# EAGLE library part IF_VIDEO_BRIDGE_MS1861 (library !GPLIB_ACTIVE)
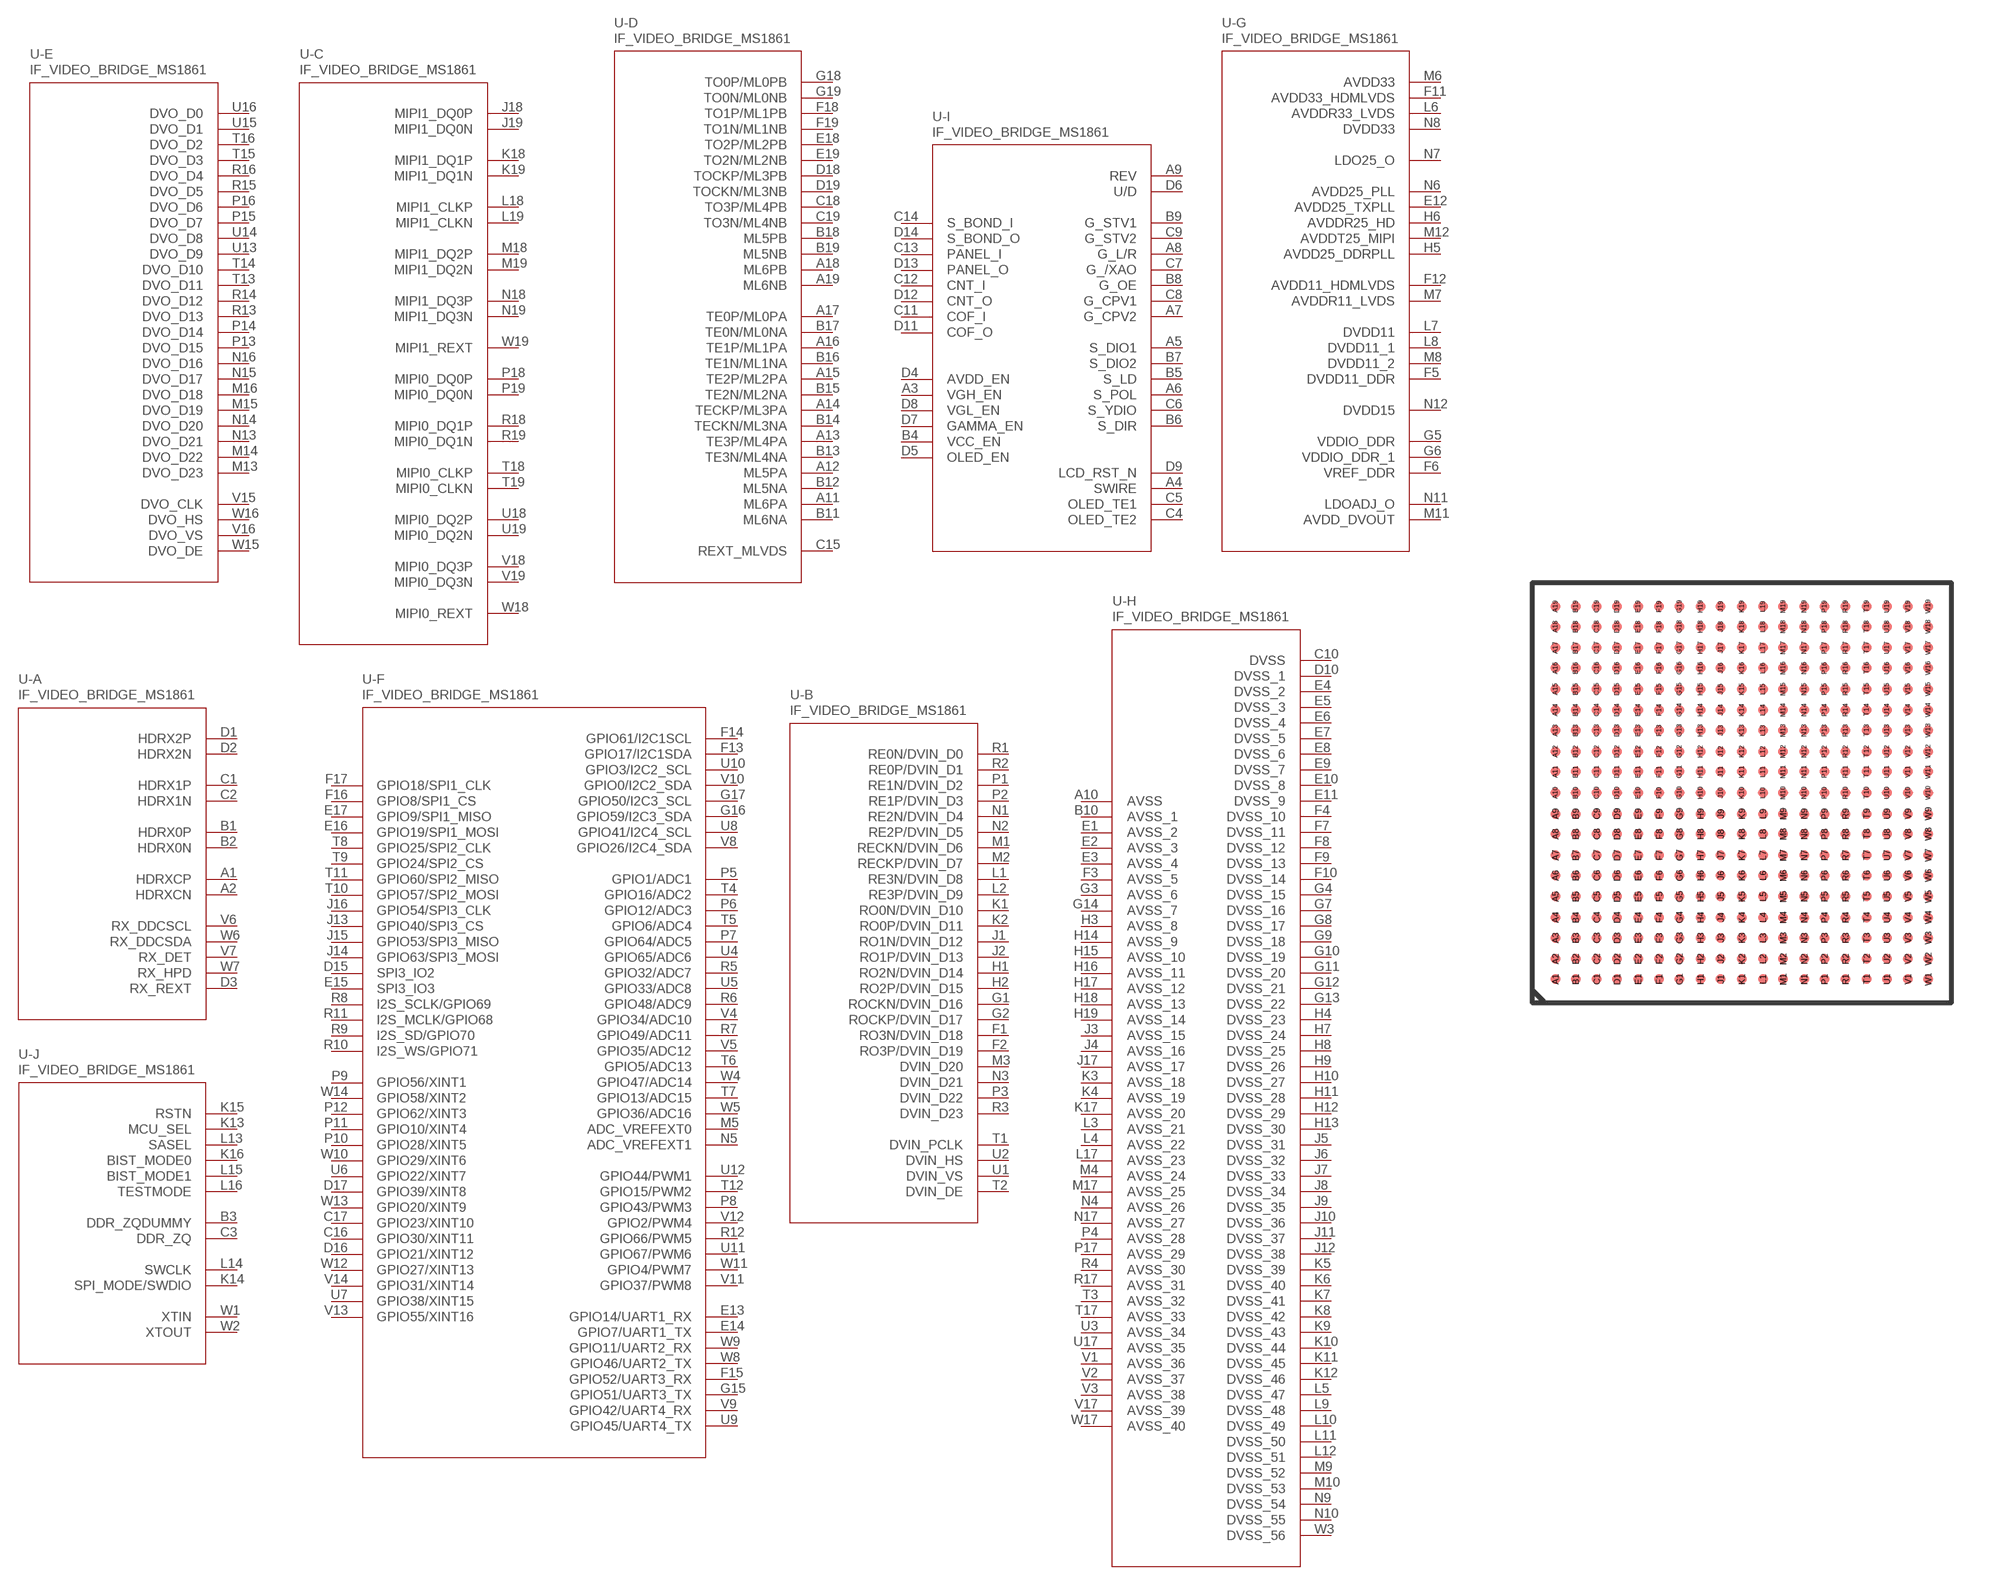
[diagram p129: symbol with the pads of BGA361C65P19X19_1300X1300X130; footprint BGA361C65P19X19_1300X1300X130]

Designator prefix U; gates -J=MS1861_SYS -F=MS1861_GPIO -H=MS1861_VSS -C=MS1861_MIPI -G=MS1861_POWER -I=MS1861_TCON -D=MS1861_MLVDS -E=MS1861_DVOUT -B=MS1861_DVIN -A=MS1861_HDMI_RX

## IF_VIDEO_BRIDGE_MS1861_MS1861  [BGA361C65P19X19_1300X1300X130]
A1  -A:HDRXCP
A2  -A:HDRXCN
A3  -I:VGH_EN
A4  -I:SWIRE
A5  -I:S_DIO1
A6  -I:S_POL
A7  -I:G_CPV2
A8  -I:G_L/R
A9  -I:REV
A10  -H:AVSS  pwr
A11  -D:ML6PA
A12  -D:ML5PA
A13  -D:TE3P/ML4PA
A14  -D:TECKP/ML3PA
A15  -D:TE2P/ML2PA
A16  -D:TE1P/ML1PA
A17  -D:TE0P/ML0PA
A18  -D:ML6PB
A19  -D:ML6NB
B1  -A:HDRX0P
B2  -A:HDRX0N
B3  -J:DDR_ZQDUMMY
B4  -I:VCC_EN
B5  -I:S_LD
B6  -I:S_DIR
B7  -I:S_DIO2
B8  -I:G_OE
B9  -I:G_STV1
B10  -H:AVSS_1  pwr
B11  -D:ML6NA
B12  -D:ML5NA
B13  -D:TE3N/ML4NA
B14  -D:TECKN/ML3NA
B15  -D:TE2N/ML2NA
B16  -D:TE1N/ML1NA
B17  -D:TE0N/ML0NA
B18  -D:ML5PB
B19  -D:ML5NB
C1  -A:HDRX1P
C2  -A:HDRX1N
C3  -J:DDR_ZQ
C4  -I:OLED_TE2
C5  -I:OLED_TE1
C6  -I:S_YDIO
C7  -I:G_/XAO
C8  -I:G_CPV1
C9  -I:G_STV2
C10  -H:DVSS  pwr
C11  -I:COF_I
C12  -I:CNT_I
C13  -I:PANEL_I
C14  -I:S_BOND_I
C15  -D:REXT_MLVDS
C16  -F:GPIO30/XINT11
C17  -F:GPIO23/XINT10
C18  -D:TO3P/ML4PB
C19  -D:TO3N/ML4NB
D1  -A:HDRX2P
D2  -A:HDRX2N
D3  -A:RX_REXT
D4  -I:AVDD_EN
D5  -I:OLED_EN
D6  -I:U/D
D7  -I:GAMMA_EN
D8  -I:VGL_EN
D9  -I:LCD_RST_N
D10  -H:DVSS_1  pwr
D11  -I:COF_O
D12  -I:CNT_O
D13  -I:PANEL_O
D14  -I:S_BOND_O
D15  -F:SPI3_IO2
D16  -F:GPIO21/XINT12
D17  -F:GPIO39/XINT8
D18  -D:TOCKP/ML3PB
D19  -D:TOCKN/ML3NB
E1  -H:AVSS_2  pwr
E2  -H:AVSS_3  pwr
E3  -H:AVSS_4  pwr
E4  -H:DVSS_2  pwr
E5  -H:DVSS_3  pwr
E6  -H:DVSS_4  pwr
E7  -H:DVSS_5  pwr
E8  -H:DVSS_6  pwr
E9  -H:DVSS_7  pwr
E10  -H:DVSS_8  pwr
E11  -H:DVSS_9  pwr
E12  -G:AVDD25_TXPLL  pwr
E13  -F:GPIO14/UART1_RX
E14  -F:GPIO7/UART1_TX
E15  -F:SPI3_IO3
E16  -F:GPIO19/SPI1_MOSI
E17  -F:GPIO9/SPI1_MISO
E18  -D:TO2P/ML2PB
E19  -D:TO2N/ML2NB
F1  -B:RO3N/DVIN_D18
F2  -B:RO3P/DVIN_D19
F3  -H:AVSS_5  pwr
F4  -H:DVSS_10  pwr
F5  -G:DVDD11_DDR  pwr
F6  -G:VREF_DDR  pwr
F7  -H:DVSS_11  pwr
F8  -H:DVSS_12  pwr
F9  -H:DVSS_13  pwr
F10  -H:DVSS_14  pwr
F11  -G:AVDD33_HDMLVDS  pwr
F12  -G:AVDD11_HDMLVDS  pwr
F13  -F:GPIO17/I2C1SDA
F14  -F:GPIO61/I2C1SCL
F15  -F:GPIO52/UART3_RX
F16  -F:GPIO8/SPI1_CS
F17  -F:GPIO18/SPI1_CLK
F18  -D:TO1P/ML1PB
F19  -D:TO1N/ML1NB
G1  -B:ROCKN/DVIN_D16
G2  -B:ROCKP/DVIN_D17
G3  -H:AVSS_6  pwr
G4  -H:DVSS_15  pwr
G5  -G:VDDIO_DDR  pwr
G6  -G:VDDIO_DDR_1  pwr
G7  -H:DVSS_16  pwr
G8  -H:DVSS_17  pwr
G9  -H:DVSS_18  pwr
G10  -H:DVSS_19  pwr
G11  -H:DVSS_20  pwr
G12  -H:DVSS_21  pwr
G13  -H:DVSS_22  pwr
G14  -H:AVSS_7  pwr
G15  -F:GPIO51/UART3_TX
G16  -F:GPIO59/I2C3_SDA
G17  -F:GPIO50/I2C3_SCL
G18  -D:TO0P/ML0PB
G19  -D:TO0N/ML0NB
H1  -B:RO2N/DVIN_D14
H2  -B:RO2P/DVIN_D15
H3  -H:AVSS_8  pwr
H4  -H:DVSS_23  pwr
H5  -G:AVDD25_DDRPLL  pwr
H6  -G:AVDDR25_HD  pwr
H7  -H:DVSS_24  pwr
H8  -H:DVSS_25  pwr
H9  -H:DVSS_26  pwr
H10  -H:DVSS_27  pwr
H11  -H:DVSS_28  pwr
H12  -H:DVSS_29  pwr
H13  -H:DVSS_30  pwr
H14  -H:AVSS_9  pwr
H15  -H:AVSS_10  pwr
H16  -H:AVSS_11  pwr
H17  -H:AVSS_12  pwr
H18  -H:AVSS_13  pwr
H19  -H:AVSS_14  pwr
J1  -B:RO1N/DVIN_D12
J2  -B:RO1P/DVIN_D13
J3  -H:AVSS_15  pwr
J4  -H:AVSS_16  pwr
J5  -H:DVSS_31  pwr
J6  -H:DVSS_32  pwr
J7  -H:DVSS_33  pwr
J8  -H:DVSS_34  pwr
J9  -H:DVSS_35  pwr
J10  -H:DVSS_36  pwr
J11  -H:DVSS_37  pwr
J12  -H:DVSS_38  pwr
J13  -F:GPIO40/SPI3_CS
J14  -F:GPIO63/SPI3_MOSI
J15  -F:GPIO53/SPI3_MISO
J16  -F:GPIO54/SPI3_CLK
J17  -H:AVSS_17  pwr
J18  -C:MIPI1_DQ0P
J19  -C:MIPI1_DQ0N
K1  -B:RO0N/DVIN_D10
K2  -B:RO0P/DVIN_D11
K3  -H:AVSS_18  pwr
K4  -H:AVSS_19  pwr
K5  -H:DVSS_39  pwr
K6  -H:DVSS_40  pwr
K7  -H:DVSS_41  pwr
K8  -H:DVSS_42  pwr
K9  -H:DVSS_43  pwr
K10  -H:DVSS_44  pwr
K11  -H:DVSS_45  pwr
K12  -H:DVSS_46  pwr
K13  -J:MCU_SEL
K14  -J:SPI_MODE/SWDIO
K15  -J:RSTN
K16  -J:BIST_MODE0
K17  -H:AVSS_20  pwr
K18  -C:MIPI1_DQ1P
K19  -C:MIPI1_DQ1N
L1  -B:RE3N/DVIN_D8
L2  -B:RE3P/DVIN_D9
L3  -H:AVSS_21  pwr
L4  -H:AVSS_22  pwr
L5  -H:DVSS_47  pwr
L6  -G:AVDDR33_LVDS  pwr
L7  -G:DVDD11  pwr
L8  -G:DVDD11_1  pwr
L9  -H:DVSS_48  pwr
L10  -H:DVSS_49  pwr
L11  -H:DVSS_50  pwr
L12  -H:DVSS_51  pwr
L13  -J:SASEL
L14  -J:SWCLK
L15  -J:BIST_MODE1
L16  -J:TESTMODE
L17  -H:AVSS_23  pwr
L18  -C:MIPI1_CLKP
L19  -C:MIPI1_CLKN
M1  -B:RECKN/DVIN_D6
M2  -B:RECKP/DVIN_D7
M3  -B:DVIN_D20
M4  -H:AVSS_24  pwr
M5  -F:ADC_VREFEXT0
M6  -G:AVDD33  pwr
M7  -G:AVDDR11_LVDS  pwr
M8  -G:DVDD11_2  pwr
M9  -H:DVSS_52  pwr
M10  -H:DVSS_53  pwr
M11  -G:AVDD_DVOUT  pwr
M12  -G:AVDDT25_MIPI  pwr
M13  -E:DVO_D23
M14  -E:DVO_D22
M15  -E:DVO_D19
M16  -E:DVO_D18
M17  -H:AVSS_25  pwr
M18  -C:MIPI1_DQ2P
M19  -C:MIPI1_DQ2N
N1  -B:RE2N/DVIN_D4
N2  -B:RE2P/DVIN_D5
N3  -B:DVIN_D21
N4  -H:AVSS_26  pwr
N5  -F:ADC_VREFEXT1
N6  -G:AVDD25_PLL  pwr
N7  -G:LDO25_O  pwr
N8  -G:DVDD33  pwr
N9  -H:DVSS_54  pwr
N10  -H:DVSS_55  pwr
N11  -G:LDOADJ_O  pwr
N12  -G:DVDD15  pwr
N13  -E:DVO_D21
N14  -E:DVO_D20
N15  -E:DVO_D17
N16  -E:DVO_D16
N17  -H:AVSS_27  pwr
N18  -C:MIPI1_DQ3P
N19  -C:MIPI1_DQ3N
P1  -B:RE1N/DVIN_D2
P2  -B:RE1P/DVIN_D3
P3  -B:DVIN_D22
P4  -H:AVSS_28  pwr
P5  -F:GPIO1/ADC1
P6  -F:GPIO12/ADC3
P7  -F:GPIO64/ADC5
P8  -F:GPIO43/PWM3
P9  -F:GPIO56/XINT1
P10  -F:GPIO28/XINT5
P11  -F:GPIO10/XINT4
P12  -F:GPIO62/XINT3
P13  -E:DVO_D15
P14  -E:DVO_D14
P15  -E:DVO_D7
P16  -E:DVO_D6
P17  -H:AVSS_29  pwr
P18  -C:MIPI0_DQ0P
P19  -C:MIPI0_DQ0N
R1  -B:RE0N/DVIN_D0
R2  -B:RE0P/DVIN_D1
R3  -B:DVIN_D23
R4  -H:AVSS_30  pwr
R5  -F:GPIO32/ADC7
R6  -F:GPIO48/ADC9
R7  -F:GPIO49/ADC11
R8  -F:I2S_SCLK/GPIO69
R9  -F:I2S_SD/GPIO70
R10  -F:I2S_WS/GPIO71
R11  -F:I2S_MCLK/GPIO68
R12  -F:GPIO66/PWM5
R13  -E:DVO_D13
R14  -E:DVO_D12
R15  -E:DVO_D5
R16  -E:DVO_D4
R17  -H:AVSS_31  pwr
R18  -C:MIPI0_DQ1P
R19  -C:MIPI0_DQ1N
T1  -B:DVIN_PCLK
T2  -B:DVIN_DE
T3  -H:AVSS_32  pwr
T4  -F:GPIO16/ADC2
T5  -F:GPIO6/ADC4
T6  -F:GPIO5/ADC13
T7  -F:GPIO13/ADC15
T8  -F:GPIO25/SPI2_CLK
T9  -F:GPIO24/SPI2_CS
T10  -F:GPIO57/SPI2_MOSI
T11  -F:GPIO60/SPI2_MISO
T12  -F:GPIO15/PWM2
T13  -E:DVO_D11
T14  -E:DVO_D10
T15  -E:DVO_D3
T16  -E:DVO_D2
T17  -H:AVSS_33  pwr
T18  -C:MIPI0_CLKP
T19  -C:MIPI0_CLKN
U1  -B:DVIN_VS
U2  -B:DVIN_HS
U3  -H:AVSS_34  pwr
U4  -F:GPIO65/ADC6
U5  -F:GPIO33/ADC8
U6  -F:GPIO22/XINT7
U7  -F:GPIO38/XINT15
U8  -F:GPIO41/I2C4_SCL
U9  -F:GPIO45/UART4_TX
U10  -F:GPIO3/I2C2_SCL
U11  -F:GPIO67/PWM6
U12  -F:GPIO44/PWM1
U13  -E:DVO_D9
U14  -E:DVO_D8
U15  -E:DVO_D1
U16  -E:DVO_D0
U17  -H:AVSS_35  pwr
U18  -C:MIPI0_DQ2P
U19  -C:MIPI0_DQ2N
V1  -H:AVSS_36  pwr
V2  -H:AVSS_37  pwr
V3  -H:AVSS_38  pwr
V4  -F:GPIO34/ADC10
V5  -F:GPIO35/ADC12
V6  -A:RX_DDCSCL
V7  -A:RX_DET
V8  -F:GPIO26/I2C4_SDA
V9  -F:GPIO42/UART4_RX
V10  -F:GPIO0/I2C2_SDA
V11  -F:GPIO37/PWM8
V12  -F:GPIO2/PWM4
V13  -F:GPIO55/XINT16
V14  -F:GPIO31/XINT14
V15  -E:DVO_CLK
V16  -E:DVO_VS
V17  -H:AVSS_39  pwr
V18  -C:MIPI0_DQ3P
V19  -C:MIPI0_DQ3N
W1  -J:XTIN
W2  -J:XTOUT
W3  -H:DVSS_56  pwr
W4  -F:GPIO47/ADC14
W5  -F:GPIO36/ADC16
W6  -A:RX_DDCSDA
W7  -A:RX_HPD
W8  -F:GPIO46/UART2_TX
W9  -F:GPIO11/UART2_RX
W10  -F:GPIO29/XINT6
W11  -F:GPIO4/PWM7
W12  -F:GPIO27/XINT13
W13  -F:GPIO20/XINT9
W14  -F:GPIO58/XINT2
W15  -E:DVO_DE
W16  -E:DVO_HS
W17  -H:AVSS_40  pwr
W18  -C:MIPI0_REXT
W19  -C:MIPI1_REXT

## Footprint BGA361C65P19X19_1300X1300X130 (pad centres in mm)
smd 0.305 x 0.305: A1 -5.842,-5.842; A2 -5.842,-5.207; A3 -5.842,-4.547; A4 -5.842,-3.912; A5 -5.842,-3.251; A6 -5.842,-2.591; A7 -5.842,-1.956; A8 -5.842,-1.295; A9 -5.842,-0.66; A10 -5.842,0; A11 -5.842,0.66; A12 -5.842,1.295; A13 -5.842,1.956; A14 -5.842,2.591; A15 -5.842,3.251; A16 -5.842,3.912; A17 -5.842,4.547; A18 -5.842,5.207; A19 -5.842,5.842; B1 -5.207,-5.842; B2 -5.207,-5.207; B3 -5.207,-4.547; B4 -5.207,-3.912; B5 -5.207,-3.251; B6 -5.207,-2.591; B7 -5.207,-1.956; B8 -5.207,-1.295; B9 -5.207,-0.66; B10 -5.207,0; B11 -5.207,0.66; B12 -5.207,1.295; B13 -5.207,1.956; B14 -5.207,2.591; B15 -5.207,3.251; B16 -5.207,3.912; B17 -5.207,4.547; B18 -5.207,5.207; B19 -5.207,5.842; C1 -4.547,-5.842; C2 -4.547,-5.207; C3 -4.547,-4.547; C4 -4.547,-3.912; C5 -4.547,-3.251; C6 -4.547,-2.591; C7 -4.547,-1.956; C8 -4.547,-1.295; C9 -4.547,-0.66; C10 -4.547,0; C11 -4.547,0.66; C12 -4.547,1.295; C13 -4.547,1.956; C14 -4.547,2.591; C15 -4.547,3.251; C16 -4.547,3.912; C17 -4.547,4.547; C18 -4.547,5.207; C19 -4.547,5.842; D1 -3.912,-5.842; D2 -3.912,-5.207; D3 -3.912,-4.547; D4 -3.912,-3.912; D5 -3.912,-3.251; D6 -3.912,-2.591; D7 -3.912,-1.956; D8 -3.912,-1.295; D9 -3.912,-0.66; D10 -3.912,0; D11 -3.912,0.66; D12 -3.912,1.295; D13 -3.912,1.956; D14 -3.912,2.591; D15 -3.912,3.251; D16 -3.912,3.912; D17 -3.912,4.547; D18 -3.912,5.207; D19 -3.912,5.842; E1 -3.251,-5.842; E2 -3.251,-5.207; E3 -3.251,-4.547; E4 -3.251,-3.912; E5 -3.251,-3.251; E6 -3.251,-2.591; E7 -3.251,-1.956; E8 -3.251,-1.295; E9 -3.251,-0.66; E10 -3.251,0; E11 -3.251,0.66; E12 -3.251,1.295; E13 -3.251,1.956; E14 -3.251,2.591; E15 -3.251,3.251; E16 -3.251,3.912; E17 -3.251,4.547; E18 -3.251,5.207; E19 -3.251,5.842; F1 -2.591,-5.842; F2 -2.591,-5.207; F3 -2.591,-4.547; F4 -2.591,-3.912; F5 -2.591,-3.251; F6 -2.591,-2.591; F7 -2.591,-1.956; F8 -2.591,-1.295; F9 -2.591,-0.66; F10 -2.591,0; F11 -2.591,0.66; F12 -2.591,1.295; F13 -2.591,1.956; F14 -2.591,2.591; F15 -2.591,3.251; F16 -2.591,3.912; F17 -2.591,4.547; F18 -2.591,5.207; F19 -2.591,5.842; G1 -1.956,-5.842; G2 -1.956,-5.207; G3 -1.956,-4.547; G4 -1.956,-3.912; G5 -1.956,-3.251; G6 -1.956,-2.591; G7 -1.956,-1.956; G8 -1.956,-1.295; G9 -1.956,-0.66; G10 -1.956,0; G11 -1.956,0.66; G12 -1.956,1.295; G13 -1.956,1.956; G14 -1.956,2.591; G15 -1.956,3.251; G16 -1.956,3.912; G17 -1.956,4.547; G18 -1.956,5.207; G19 -1.956,5.842; H1 -1.295,-5.842; H2 -1.295,-5.207; H3 -1.295,-4.547; H4 -1.295,-3.912; H5 -1.295,-3.251; H6 -1.295,-2.591; H7 -1.295,-1.956; H8 -1.295,-1.295; H9 -1.295,-0.66; H10 -1.295,0; H11 -1.295,0.66; H12 -1.295,1.295; H13 -1.295,1.956; H14 -1.295,2.591; H15 -1.295,3.251; H16 -1.295,3.912; H17 -1.295,4.547; H18 -1.295,5.207; H19 -1.295,5.842; J1 -0.66,-5.842; J2 -0.66,-5.207; J3 -0.66,-4.547; J4 -0.66,-3.912; J5 -0.66,-3.251; J6 -0.66,-2.591; J7 -0.66,-1.956; J8 -0.66,-1.295; J9 -0.66,-0.66; J10 -0.66,0; J11 -0.66,0.66; J12 -0.66,1.295; J13 -0.66,1.956; J14 -0.66,2.591; J15 -0.66,3.251; J16 -0.66,3.912; J17 -0.66,4.547; J18 -0.66,5.207; J19 -0.66,5.842; K1 0,-5.842; K2 0,-5.207; K3 0,-4.547; K4 0,-3.912; K5 0,-3.251; K6 0,-2.591; K7 0,-1.956; K8 0,-1.295; K9 0,-0.66; K10 0,0; K11 0,0.66; K12 0,1.295; K13 0,1.956; K14 0,2.591; K15 0,3.251; K16 0,3.912; K17 0,4.547; K18 0,5.207; K19 0,5.842; L1 0.66,-5.842; L2 0.66,-5.207; L3 0.66,-4.547; L4 0.66,-3.912; L5 0.66,-3.251; L6 0.66,-2.591; L7 0.66,-1.956; L8 0.66,-1.295; L9 0.66,-0.66; L10 0.66,0; L11 0.66,0.66; L12 0.66,1.295; L13 0.66,1.956; L14 0.66,2.591; L15 0.66,3.251; L16 0.66,3.912; L17 0.66,4.547; L18 0.66,5.207; L19 0.66,5.842; M1 1.295,-5.842; M2 1.295,-5.207; M3 1.295,-4.547; M4 1.295,-3.912; M5 1.295,-3.251; M6 1.295,-2.591; M7 1.295,-1.956; M8 1.295,-1.295; M9 1.295,-0.66; M10 1.295,0; M11 1.295,0.66; M12 1.295,1.295; M13 1.295,1.956; M14 1.295,2.591; M15 1.295,3.251; M16 1.295,3.912; M17 1.295,4.547; M18 1.295,5.207; M19 1.295,5.842; N1 1.956,-5.842; N2 1.956,-5.207; N3 1.956,-4.547; N4 1.956,-3.912; N5 1.956,-3.251; N6 1.956,-2.591; N7 1.956,-1.956; N8 1.956,-1.295; N9 1.956,-0.66; N10 1.956,0; N11 1.956,0.66; N12 1.956,1.295; N13 1.956,1.956; N14 1.956,2.591; N15 1.956,3.251; N16 1.956,3.912; N17 1.956,4.547; N18 1.956,5.207; N19 1.956,5.842; P1 2.591,-5.842; P2 2.591,-5.207; P3 2.591,-4.547; P4 2.591,-3.912; P5 2.591,-3.251; P6 2.591,-2.591; P7 2.591,-1.956; P8 2.591,-1.295; P9 2.591,-0.66; P10 2.591,0; P11 2.591,0.66; P12 2.591,1.295; P13 2.591,1.956; P14 2.591,2.591; P15 2.591,3.251; P16 2.591,3.912; P17 2.591,4.547; P18 2.591,5.207; P19 2.591,5.842; R1 3.251,-5.842; R2 3.251,-5.207; R3 3.251,-4.547; R4 3.251,-3.912; R5 3.251,-3.251; R6 3.251,-2.591; R7 3.251,-1.956; R8 3.251,-1.295; R9 3.251,-0.66; R10 3.251,0; R11 3.251,0.66; R12 3.251,1.295; R13 3.251,1.956; R14 3.251,2.591; R15 3.251,3.251; R16 3.251,3.912; R17 3.251,4.547; R18 3.251,5.207; R19 3.251,5.842; T1 3.912,-5.842; T2 3.912,-5.207; T3 3.912,-4.547; T4 3.912,-3.912; T5 3.912,-3.251; T6 3.912,-2.591; T7 3.912,-1.956; T8 3.912,-1.295; T9 3.912,-0.66; T10 3.912,0; T11 3.912,0.66; T12 3.912,1.295; T13 3.912,1.956; T14 3.912,2.591; T15 3.912,3.251; T16 3.912,3.912; T17 3.912,4.547; T18 3.912,5.207; T19 3.912,5.842; U1 4.547,-5.842; U2 4.547,-5.207; U3 4.547,-4.547; U4 4.547,-3.912; U5 4.547,-3.251; U6 4.547,-2.591; U7 4.547,-1.956; U8 4.547,-1.295; U9 4.547,-0.66; U10 4.547,0; U11 4.547,0.66; U12 4.547,1.295; U13 4.547,1.956; U14 4.547,2.591; U15 4.547,3.251; U16 4.547,3.912; U17 4.547,4.547; U18 4.547,5.207; U19 4.547,5.842; V1 5.207,-5.842; V2 5.207,-5.207; V3 5.207,-4.547; V4 5.207,-3.912; V5 5.207,-3.251; V6 5.207,-2.591; V7 5.207,-1.956; V8 5.207,-1.295; V9 5.207,-0.66; V10 5.207,0; V11 5.207,0.66; V12 5.207,1.295; V13 5.207,1.956; V14 5.207,2.591; V15 5.207,3.251; V16 5.207,3.912; V17 5.207,4.547; V18 5.207,5.207; V19 5.207,5.842; W1 5.842,-5.842; W2 5.842,-5.207; W3 5.842,-4.547; W4 5.842,-3.912; W5 5.842,-3.251; W6 5.842,-2.591; W7 5.842,-1.956; W8 5.842,-1.295; W9 5.842,-0.66; W10 5.842,0; W11 5.842,0.66; W12 5.842,1.295; W13 5.842,1.956; W14 5.842,2.591; W15 5.842,3.251; W16 5.842,3.912; W17 5.842,4.547; W18 5.842,5.207; W19 5.842,5.842